# Altium schematic symbol library Header 16H.Schlib: 1 symbol
Pins are listed as number, name and electrical type; pins without a type are passive.

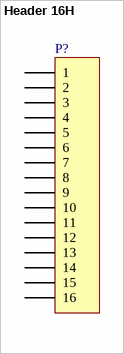
[diagram p0: symbol Header 16H]

## Header 16H
designator P?
Header, 16-Pin, Right Angle
pins: 1, 2, 3, 4, 5, 6, 7, 8, 9, 10, 11, 12, 13, 14, 15, 16